# Altium footprint library CSD18540Q5B.PcbLib: 1 footprints
Each footprint in its own frame and in the unit in brackets; x right, y up, seen from the top. Pads: shape width x height; smd on the part's side, far side on the other; paste and mask are expansions set on the pad; w line width, h text height; cw(c..) or ccw(c..) is an arc to the next point about the centre after c.
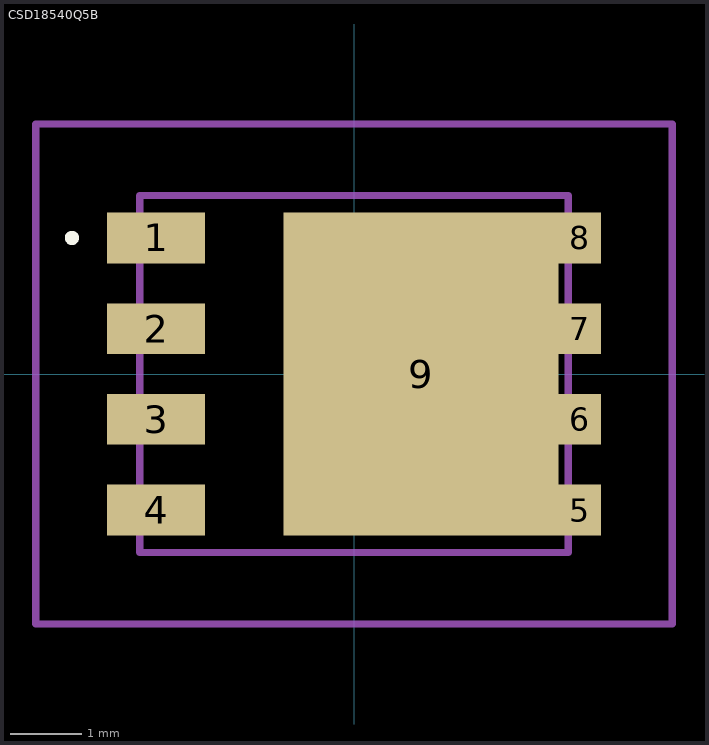
[diagram p0: the footprint, top view; thin cyan lines are the x and y axes]

## CSD18540Q5B [mm]
pads (9):
  rect 1.372x0.71 smd: 1(-2.77,1.905) 2(-2.77,0.635) 3(-2.77,-0.635) 4(-2.77,-1.905)
  rect 0.59x0.71 smd: 5(3.161,-1.905) 6(3.161,-0.635) 7(3.161,0.635) 8(3.161,1.905)
  rect 3.85x4.52 smd: 9(0.941,0)
Top Overlay:
  lines w0.1: -4,1.905 -4,1.905 ; -4,1.905 ccw(c-3.95,1.905) -3.9,1.905 ; -4,1.905 cw(c-3.95,1.905) -3.9,1.905 ; -3.9,1.905 -3.9,1.905
Mechanical 15:
  lines w0.1: -3,-2.5 3,-2.5 3,2.5 -3,2.5 -3,-2.5
Mechanical 20:
  lines w0.1: -4.456,-3.5 4.456,-3.5 4.456,3.5 -4.456,3.5 -4.456,-3.5